# EAGLE library part RESISTORS_NETWORK_SIL_X8 (library passives)
SIL RESISTOR
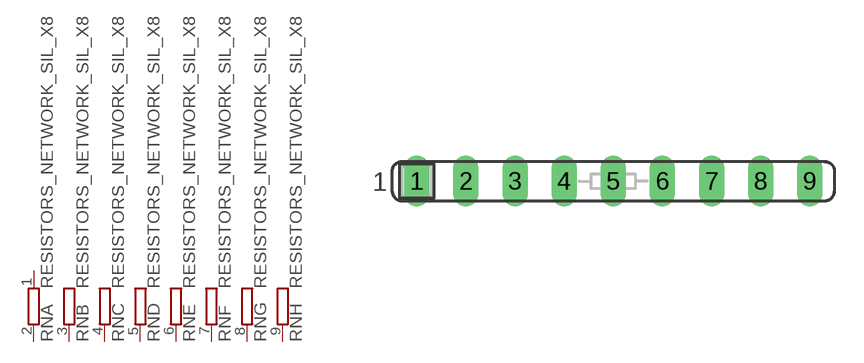
[diagram p1: symbol with the pads of RESISTORS_NETWORK_SIL_X8; footprint RESISTORS_NETWORK_SIL_X8]

Designator prefix RN; gates A=RES_NETWORK_SIL B=RES_NETWORK_SIL_1 C=RES_NETWORK_SIL_1 D=RES_NETWORK_SIL_1 E=RES_NETWORK_SIL_1 F=RES_NETWORK_SIL_1 G=RES_NETWORK_SIL_1 H=RES_NETWORK_SIL_1

## RESISTORS_NETWORK_SIL_X8  [RESISTORS_NETWORK_SIL_X8]
1  A:1  pas
2  A:2  pas
3  B:2  pas
4  C:2  pas
5  D:2  pas
6  E:2  pas
7  F:2  pas
8  G:2  pas
9  H:2  pas

## Footprint RESISTORS_NETWORK_SIL_X8 (pad centres in mm)
Single In Line
drill 0.813 long: 1 -10.16,0; 2 -7.62,0; 3 -5.08,0; 4 -2.54,0; 5 0,0; 6 2.54,0; 7 5.08,0; 8 7.62,0; 9 10.16,0